# EAGLE library part BQ24040 (library LARS_409_DC-DC)
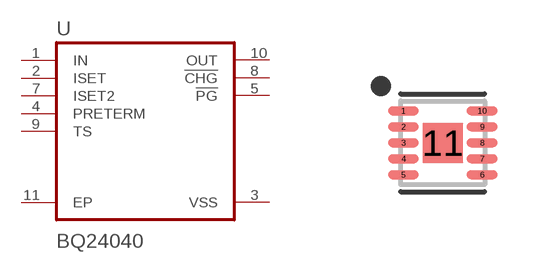
[diagram p2: symbol with the pads of WSON(10); footprint WSON(10)]

Designator prefix U

## BQ24040  [WSON(10)]
1  IN  in
2  ISET  in
3  VSS  pwr
4  PRETERM  in
5  !PG  out
7  ISET2  in
8  !CHG  out
9  TS  in
10  OUT  out
11  EP

## Footprint WSON(10) (pad centres in mm)
10-SON (DFN), 0.40 mm pitch, 2.00 X 2.00 X 0.80 mm body, 1.00 X 1.00 mm thermal pad 10-pin SON (DFN) package with 0.40 mm pitch with body size 2.00 X 2.00 X 0.80 mm and thermal pad size 1.00 X 1.00 mm
smd 0.76 x 0.22: 1 -0.985,0.8; 2 -0.985,0.4; 3 -0.985,0; 4 -0.985,-0.4; 5 -0.985,-0.8; 6 0.985,-0.8; 7 0.985,-0.4; 8 0.985,0; 9 0.985,0.4; 10 0.985,0.8
smd 1 x 1: 11 0,0